# Altium footprint library ADI_CP_72_1.PcbLib: 1 footprints
Each footprint in its own frame and in the unit in brackets; x right, y up, seen from the top. Pads: shape width x height; smd on the part's side, far side on the other; paste and mask are expansions set on the pad; w line width, h text height; cw(c..) or ccw(c..) is an arc to the next point about the centre after c.
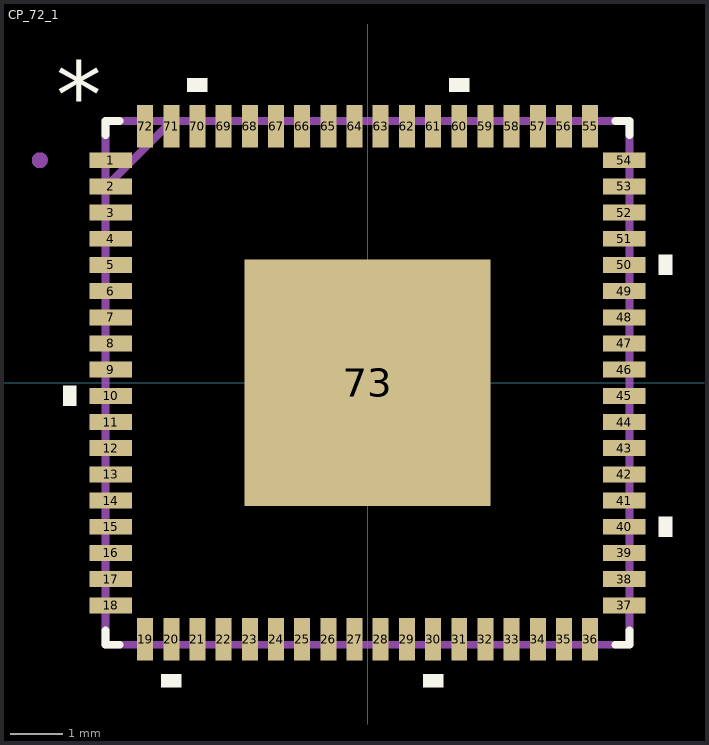
[diagram p0: the footprint, top view; thin cyan lines are the x and y axes]

## CP_72_1 [mil]
height 39
pads (73):
  rect 32x12 smd mask+5: 1(-193,167.32) 2(-193,147.64) 3(-193,127.95) 4(-193,108.27) 5(-193,88.58) 6(-193,68.9) 7(-193,49.21) 8(-193,29.53) 9(-193,9.84) 10(-193,-9.84) 11(-193,-29.53) 12(-193,-49.21) 13(-193,-68.9) 14(-193,-88.58) 15(-193,-108.27) 16(-193,-127.95) 17(-193,-147.64) 18(-193,-167.32) 37(193,-167.32) 38(193,-147.64) 39(193,-127.95) 40(193,-108.27) 41(193,-88.58) 42(193,-68.9) 43(193,-49.21) 44(193,-29.53) 45(193,-9.84) 46(193,9.84) 47(193,29.53) 48(193,49.21) 49(193,68.9) 50(193,88.58) 51(193,108.27) 52(193,127.95) 53(193,147.64) 54(193,167.32)
  rect 12x32 smd mask+5: 19(-167.32,-193) 20(-147.64,-193) 21(-127.95,-193) 22(-108.27,-193) 23(-88.58,-193) 24(-68.9,-193) 25(-49.21,-193) 26(-29.53,-193) 27(-9.84,-193) 28(9.84,-193) 29(29.53,-193) 30(49.21,-193) 31(68.9,-193) 32(88.58,-193) 33(108.27,-193) 34(127.95,-193) 35(147.64,-193) 36(167.32,-193) 55(167.32,193) 56(147.64,193) 57(127.95,193) 58(108.27,193) 59(88.58,193) 60(68.9,193) 61(49.21,193) 62(29.53,193) 63(9.84,193) 64(-9.84,193) 65(-29.53,193) 66(-49.21,193) 67(-68.9,193) 68(-88.58,193) 69(-108.27,193) 70(-127.95,193) 71(-147.64,193) 72(-167.32,193)
  rect 185x185 smd mask-92: 73(0,0)
Top Overlay:
  region: -120.45,219 -135.45,219 -135.45,229 -120.45,229
  region: 76.4,219 61.4,219 61.4,229 76.4,229
  region: 219,96.08 229,96.08 229,81.08 219,81.08
  region: 219,-100.77 229,-100.77 229,-115.77 219,-115.77
  region: 56.71,-219 41.71,-219 41.71,-229 56.71,-229
  region: -140.14,-219 -155.14,-219 -155.14,-229 -140.14,-229
  region: -219,-2.34 -229,-2.34 -229,-17.34 -219,-17.34
  lines w6: -197,-186.42 -197,-197 -186.42,-197 ; -197,186.42 -197,197 -186.42,197 ; 186.42,-197 197,-197 197,-186.42 ; 186.42,197 197,197 197,186.42
  text "*" at -234,192.17 h50
Mechanical 1:
  drawing of 155 lines, arcs and shapes, not listed
  text "*" at -234,192.17 h50
  text "39" at 0,0 h50